# EAGLE library part ATARI-5200-C (library a52-cartridge)
Atari Standard Cartridge Edge Connector
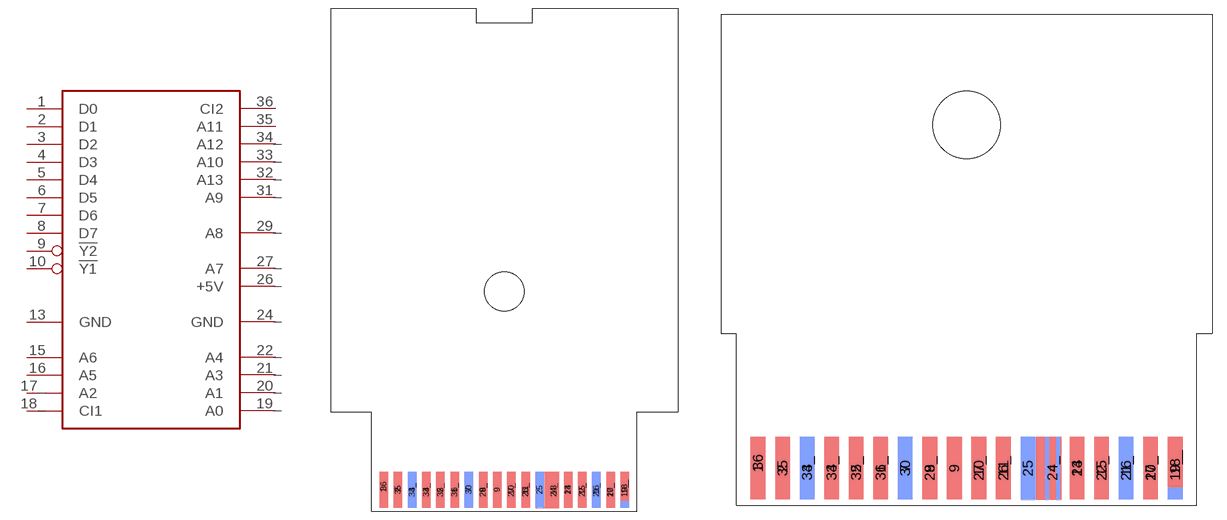
[diagram p1: symbol with the pads of ATARI-5200-LONG-T; footprints ATARI-5200-LONG-T, ATARI-5200-SMALL-T]

Designator prefix -

## ATARI-5200-C  [ATARI-5200-LONG-T]
1  D0
2  D1
3  D2
4  D3
5  D4
6  D5
7  D6
8  D7
9  !Y2
10  !Y1
13  GND
15  A6
16  A5
17_  A2
18_  CI1
19_  A0
20_  A1
21_  A3
22_  A4
24_  GND
26_  +5V
27_  A7
29_  A8
31_  A9
32_  A13
33_  A10
34_  A12
35  A11
36  CI2

## ATARI-5200-CS  [ATARI-5200-SMALL-T]
Pads as for ATARI-5200-LONG-T

## Footprint ATARI-5200-LONG-T (pad centres in mm)
Atari 5200 cartridge board
smd 1.524 x 6.477: 1 -21.59,3.81; 2 -19.05,3.81; 3 -16.51,3.81; 4 -13.97,3.81; 5 -11.43,3.81; 6 -8.89,3.81; 7 -6.35,3.81; 8 -3.81,3.81; 9 -1.27,3.81; 10 1.27,3.81; 11 3.81,3.81; 13 8.89,3.81; 14 11.43,3.81; 15 13.97,3.81; 16 16.51,3.81; 17_ 19.05,3.81
smd 1.524 x 5.207: 18_ 21.59,4.445
smd 1.524 x 6.477 bottom: 19_ 21.59,3.81; 20_ 19.05,3.81; 21_ 16.51,3.81; 22_ 13.97,3.81; 23 11.43,3.81; 24_ 8.89,3.81; 25 6.35,3.81; 26_ 3.81,3.81; 27_ 1.27,3.81; 29_ -3.81,3.81; 30 -6.35,3.81; 31_ -8.89,3.81; 32_ -11.43,3.81; 33_ -13.97,3.81; 34_ -16.51,3.81; 35 -19.05,3.81
smd 1.524 x 5.207 bottom: 36 -21.59,4.445
hole 7 at 0,39.37

## Footprint ATARI-5200-SMALL-T (pad centres in mm)
Atari 5200 cartridge board
smd 1.524 x 6.477: 1 -21.59,3.81; 2 -19.05,3.81; 3 -16.51,3.81; 4 -13.97,3.81; 5 -11.43,3.81; 6 -8.89,3.81; 7 -6.35,3.81; 8 -3.81,3.81; 9 -1.27,3.81; 10 1.27,3.81; 11 3.81,3.81; 14 11.43,3.81; 15 13.97,3.81; 16 16.51,3.81; 17_ 19.05,3.81
smd 0.648 x 6.477: 13 8.89,3.81
smd 1.524 x 5.207: 18_ 21.59,4.445
smd 1.524 x 6.477 bottom: 19_ 21.59,3.81; 20_ 19.05,3.81; 21_ 16.51,3.81; 22_ 13.97,3.81; 23 11.43,3.81; 24_ 8.89,3.81; 25 6.35,3.81; 26_ 3.81,3.81; 27_ 1.27,3.81; 29_ -3.81,3.81; 30 -6.35,3.81; 31_ -8.89,3.81; 32_ -11.43,3.81; 33_ -13.97,3.81; 34_ -16.51,3.81; 35 -19.05,3.81
smd 1.524 x 5.207 bottom: 36 -21.59,4.445
hole 7 at 0,39.37